# Altium schematic symbol library MK66FX1M0VLQ18.SchLib: 1 symbol
Pins are listed as number, name and electrical type; pins without a type are passive.

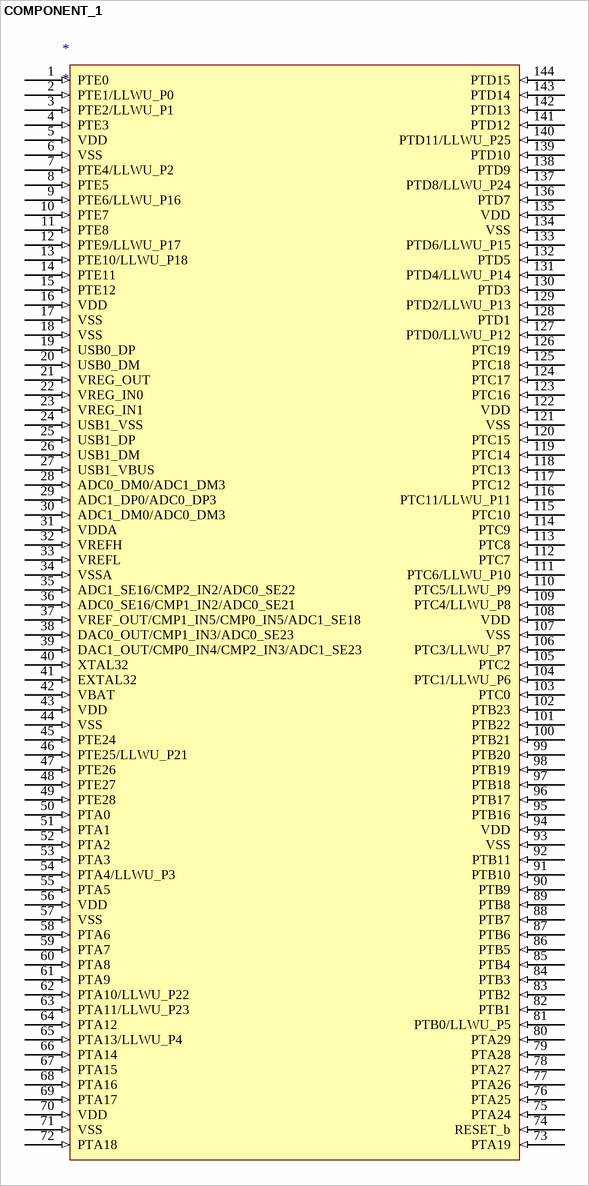
[diagram p0: symbol COMPONENT_1]

## COMPONENT_1
designator *
footprint LQFP144 0.5mm Pitch
pins: 1 PTE0 (in), 2 PTE1/LLWU_P0 (in), 3 PTE2/LLWU_P1 (in), 4 PTE3 (in), 5 VDD (in), 6 VSS (in), 7 PTE4/LLWU_P2 (in), 8 PTE5 (in), 9 PTE6/LLWU_P16 (in), 10 PTE7 (in), 11 PTE8 (in), 12 PTE9/LLWU_P17 (in), 13 PTE10/LLWU_P18 (in), 14 PTE11 (in), 15 PTE12 (in), 16 VDD (in), 17 VSS (in), 18 VSS (in), 19 USB0_DP (in), 20 USB0_DM (in), 21 VREG_OUT (in), 22 VREG_IN0 (in), 23 VREG_IN1 (in), 24 USB1_VSS (in), 25 USB1_DP (in), 26 USB1_DM (in), 27 USB1_VBUS (in), 28 ADC0_DM0/ADC1_DM3 (in), 29 ADC1_DP0/ADC0_DP3 (in), 30 ADC1_DM0/ADC0_DM3 (in), 31 VDDA (in), 32 VREFH (in), 33 VREFL (in), 34 VSSA (in), 35 ADC1_SE16/CMP2_IN2/ADC0_SE22 (in), 36 ADC0_SE16/CMP1_IN2/ADC0_SE21 (in), 37 VREF_OUT/CMP1_IN5/CMP0_IN5/ADC1_SE18 (in), 38 DAC0_OUT/CMP1_IN3/ADC0_SE23 (in), 39 DAC1_OUT/CMP0_IN4/CMP2_IN3/ADC1_SE23 (in), 40 XTAL32 (in), 41 EXTAL32 (in), 42 VBAT (in), 43 VDD (in), 44 VSS (in), 45 PTE24 (in), 46 PTE25/LLWU_P21 (in), 47 PTE26 (in), 48 PTE27 (in), 49 PTE28 (in), 50 PTA0 (in), 51 PTA1 (in), 52 PTA2 (in), 53 PTA3 (in), 54 PTA4/LLWU_P3 (in), 55 PTA5 (in), 56 VDD (in), 57 VSS (in), 58 PTA6 (in), 59 PTA7 (in), 60 PTA8 (in), 61 PTA9 (in), 62 PTA10/LLWU_P22 (in), 63 PTA11/LLWU_P23 (in), 64 PTA12 (in), 65 PTA13/LLWU_P4 (in), 66 PTA14 (in), 67 PTA15 (in), 68 PTA16 (in), 69 PTA17 (in), 70 VDD (in), 71 VSS (in), 72 PTA18 (in), 73 PTA19 (in), 74 RESET_b (in), 75 PTA24 (in), 76 PTA25 (in), 77 PTA26 (in), 78 PTA27 (in), 79 PTA28 (in), 80 PTA29 (in), 81 PTB0/LLWU_P5 (in), 82 PTB1 (in), 83 PTB2 (in), 84 PTB3 (in), 85 PTB4 (in), 86 PTB5 (in), 87 PTB6 (in), 88 PTB7 (in), 89 PTB8 (in), 90 PTB9 (in), 91 PTB10 (in), 92 PTB11 (in), 93 VSS (in), 94 VDD (in), 95 PTB16 (in), 96 PTB17 (in), 97 PTB18 (in), 98 PTB19 (in), 99 PTB20 (in), 100 PTB21 (in), 101 PTB22 (in), 102 PTB23 (in), 103 PTC0 (in), 104 PTC1/LLWU_P6 (in), 105 PTC2 (in), 106 PTC3/LLWU_P7 (in), 107 VSS (in), 108 VDD (in), 109 PTC4/LLWU_P8 (in), 110 PTC5/LLWU_P9 (in), 111 PTC6/LLWU_P10 (in), 112 PTC7 (in), 113 PTC8 (in), 114 PTC9 (in), 115 PTC10 (in), 116 PTC11/LLWU_P11 (in), 117 PTC12 (in), 118 PTC13 (in), 119 PTC14 (in), 120 PTC15 (in), 121 VSS (in), 122 VDD (in), 123 PTC16 (in), 124 PTC17 (in), 125 PTC18 (in), 126 PTC19 (in), 127 PTD0/LLWU_P12 (in), 128 PTD1 (in), 129 PTD2/LLWU_P13 (in), 130 PTD3 (in), 131 PTD4/LLWU_P14 (in), 132 PTD5 (in), 133 PTD6/LLWU_P15 (in), 134 VSS (in), 135 VDD (in), 136 PTD7 (in), 137 PTD8/LLWU_P24 (in), 138 PTD9 (in), 139 PTD10 (in), 140 PTD11/LLWU_P25 (in), 141 PTD12 (in), 142 PTD13 (in), 143 PTD14 (in), 144 PTD15 (in)